# Altium schematic symbol library Capacitor_Polarized_2Pin.Schlib: 1 symbol
Pins are listed as number, name and electrical type; pins without a type are passive.

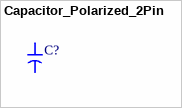
[diagram p0: symbol Capacitor_Polarized_2Pin]

## Capacitor_Polarized_2Pin
designator C?
Polarized Capacitor
pins: 1, 2